# EAGLE library part MAX3387E (library di_ic)
MAXIM - MAX3387E, 3.3V ±15kV ESD-Protected, AutoShutdown Plus RS-232 Transceiver for PDAs and Cell Phones. http://datasheets.maxim-ic.com/en/ds/MAX3387E.pdf
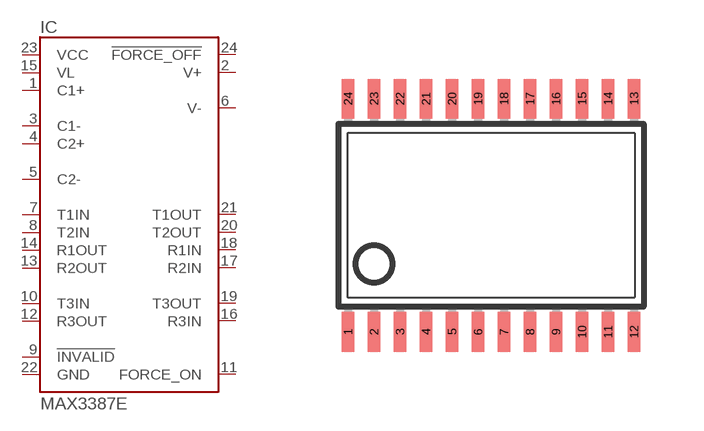
[diagram p51: symbol with the pads of TSSOP24; footprint TSSOP24]

Designator prefix IC

## MAX3387E  [TSSOP24]
1  C1+
2  V+
3  C1-
4  C2+
5  C2-
6  V-
7  T1IN
8  T2IN
9  !INVALID
10  T3IN
11  FORCE_ON
12  R3OUT
13  R2OUT
14  R1OUT
15  VL
16  R3IN
17  R2IN
18  R1IN
19  T3OUT
20  T2OUT
21  T1OUT
22  GND
23  VCC
24  !FORCE_OFF

## Footprint TSSOP24 (pad centres in mm)
Thin Shrink Small Outline Plastic 24 MAX3223-MAX3243.pdf
smd 0.305 x 0.991: 1 -3.575,-2.918; 2 -2.925,-2.918; 3 -2.275,-2.918; 4 -1.625,-2.918; 5 -0.975,-2.918; 6 -0.325,-2.918; 7 0.325,-2.918; 8 0.975,-2.918; 9 1.625,-2.918; 10 2.275,-2.918; 11 2.925,-2.918; 12 3.575,-2.918; 13 3.575,2.918; 14 2.925,2.918; 15 2.275,2.918; 16 1.625,2.918; 17 0.975,2.918; 18 0.325,2.918; 19 -0.325,2.918; 20 -0.975,2.918; 21 -1.625,2.918; 22 -2.275,2.918; 23 -2.925,2.918; 24 -3.575,2.918